# EAGLE library part STMBLUEPILL (library PYF08A-E)
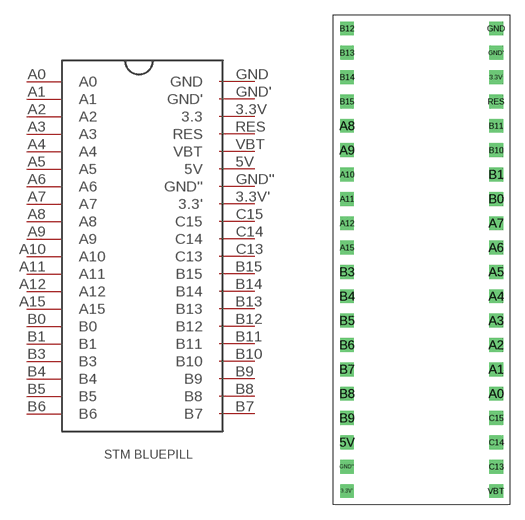
[diagram p0: symbol with the pads of BLUEPILL2; footprint BLUEPILL2]

Designator prefix -

## STMBLUEPILL  [BLUEPILL2]
3.3V  3.3
3.3V'  3.3'
5V  5V
A0  A0
A1  A1
A2  A2
A3  A3
A4  A4
A5  A5
A6  A6
A7  A7
A8  A8
A9  A9
A10  A10
A11  A11
A12  A12
A15  A15
B0  B0
B1  B1
B3  B3
B4  B4
B5  B5
B6  B6
B7  B7
B8  B8
B9  B9
B10  B10
B11  B11
B12  B12
B13  B13
B14  B14
B15  B15
C13  C13
C14  C14
C15  C15
GND  GND
GND'  GND'
GND''  GND''
RES  RES
VBT  VBT

## Footprint BLUEPILL2 (pad centres in mm)
drill 0.7 pad 1.422 square: 3.3V 15.3,-5.3; 3.3V' 0,-47.8; 5V 0,-42.8; A0 15.3,-37.8; A1 15.3,-35.3; A2 15.3,-32.8; A3 15.3,-30.3; A4 15.3,-27.8; A5 15.3,-25.3; A6 15.3,-22.8; A7 15.3,-20.3; A8 0,-10.3; A9 0,-12.8; A10 0,-15.3; A11 0,-17.8; A12 0,-20.3; A15 0,-22.8; B0 15.3,-17.8; B1 15.3,-15.3; B3 0,-25.3; B4 0,-27.8; B5 0,-30.3; B6 0,-32.8; B7 0,-35.3; B8 0,-37.8; B9 0,-40.3; B10 15.3,-12.8; B11 15.3,-10.3; B12 0,-0.3; B13 0,-2.8; B14 0,-5.3; B15 0,-7.8; C13 15.3,-45.3; C14 15.3,-42.8; C15 15.3,-40.3; GND 15.3,-0.3; GND' 15.3,-2.8; GND'' 0,-45.3; RES 15.3,-7.8; VBT 15.3,-47.8